# Altium schematic symbol library HV9150.SchLib: 23 symbols
Pins are listed as number, name and electrical type; pins without a type are passive.

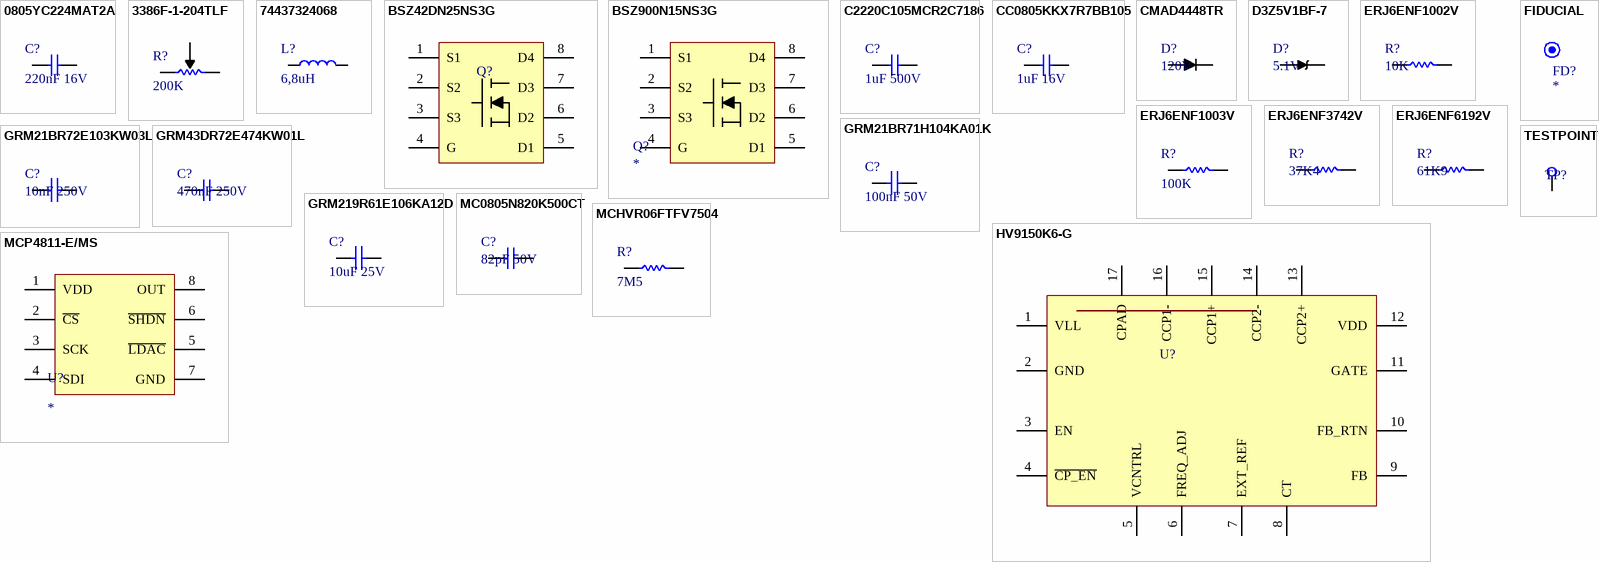
[diagram p0: symbols 0805YC224MAT2A to TESTPOINT]

## 0805YC224MAT2A
designator C?, comment 220nF 16V
CAPACITOR 220nF 0805 20%16V; Manufacturer: Kyocera AVX; Manufacturer Part Number: 0805YC224MAT2A; Tolerance: 20%; Dielectric: X7R; Dissipation Factor: 3.5%; Supplier 1: Farnell; Stock 1: 0; Pricing 1: 4000=0.0977, 8000=0.0958, 16000=0.0934 (EUR); Mount: Surface Mount; Case/Package: 0805; Number of Pins: 2; Case Code (Imperial): 0805; Case Code (Metric): 2012; Min Operating Temperature: -55°C; Max Operating Temperature: 125°C; Capacitance: 220nF; Voltage Rating: 16V; Packaging: Tape and Reel; Package Quantity: 4000; Voltage Rating (DC): 16V; Termination: SMD/SMT; Length: 2.01mm; Height: 0.94mm; Width: 1.25mm; Thickness: 0.037inch; Depth: 1.25mm; REACH SVHC: Unknown; Lead Free: Lead Free; ComponentLink1URL: http://www.mouser.com/ds/2/40/X7RDielectric-777024.pdf?src-supplier=Mouser; ComponentLink1Description: http://www.mouser.com/ds/2/40/X7RDielectric-777024.pdf?src-supplier=Mouser; ComponentLink2URL: http://www.avx.com/docs/Catalogs/cx7r.pdf?src-supplier=Avnet; ComponentLink2Description: http://www.avx.com/docs/Catalogs/cx7r.pdf?src-supplier=Avnet; ComponentLink3URL: http://datasheets.avx.com/X7RDielectric.pdf?src-supplier=Digi-Key; ComponentLink3Description: http://datasheets.avx.com/X7RDielectric.pdf?src-supplier=Digi-Key; Value: 220nF 16V
footprint CAP 0805/2012 (Chip Capacitor, 2-Leads, Body 2.00x1.20mm, IPC Medium Density)
pins: 1, 2

## 3386F-1-204TLF
designator R?, comment 200K
POT 200K 3386F 10% 500mW trimmer potentiometer; Manufacturer: Bourns; Manufacturer Part Number: 3386F-1-204TLF; Resistance: 200kR; Voltage Rating: 300V; Temperature Coefficient: 100ppm/°C; Number of Turns: 1; Supplier 1: Mouser; Stock 1: 198; Pricing 1: 1=2.48, 10=1.95, 50=1.88, 100=1.73, 1000=1.35, 10000=1.08 (USD); Mount: Through Hole; Weight: 0.03oz; Min Operating Temperature: -55°C; Max Operating Temperature: 125°C; Tolerance: 10%; Power Rating: 500mW; Packaging: Rail/Tube; Package Quantity: 100; Composition: Cermet; Termination: Pin; Max Power Dissipation: 500mW; Military Standard: Not; Length: 9.53mm; Height: 0.19inch; Depth: 9.53mm; Radiation Hardening: No; REACH SVHC: No SVHC; ComponentLink1URL: http://uk.rs-online.com/webdocs/069c/0900766b8069ccf9.pdf?src-supplier=RSComponents; ComponentLink1Description: http://uk.rs-online.com/webdocs/069c/0900766b8069ccf9.pdf?src-supplier=RSComponents; ComponentLink2URL: http://www.farnell.com/datasheets/1815119.pdf?src-supplier=Element14; ComponentLink2Description: http://www.farnell.com/datasheets/1815119.pdf?src-supplier=Element14; ComponentLink3URL: http://www.bourns.com/data/global/pdfs/3386.pdf?src-supplier=Avnet; ComponentLink3Description: http://www.bourns.com/data/global/pdfs/3386.pdf?src-supplier=Avnet; ComponentLink4URL: http://www.bourns.com/docs/Product-Datasheets/3386.pdf?src-supplier=Digi-Key; ComponentLink4Description: http://www.bourns.com/docs/Product-Datasheets/3386.pdf?src-supplier=Digi-Key; Value: 200K
footprint BOURNS 3386F
pins: 1, 2, 3

## 74437324068
designator L?, comment 6,8uH
INDUCTOR 6,8 uH 20% 1,75 A; Manufacturer: Wurth Electronics; Manufacturer Part Number: 74437324068; Core Material: Ferrite,Composite; Frequency: 29MHz; Current Rating: 1.75A; Saturation Current: 3.5A; Shielding: Shielded; Inductance: 6.8uH; DC Resistance (DCR): 172mR; Test Frequency: 100kHz; Supplier 1: Farnell; Stock 1: 0; Mount: Surface Mount; Case/Package: Nonstandard; Min Operating Temperature: -40°C; Max Operating Temperature: 125°C; Tolerance: 20%; Inductance Tolerance: 20%; Package Quantity: 3000; Packaging: Tape and Reel; Self Resonant Frequency: 29MHz; Composition: Wirewound; Max DC Current: 1.75A; Termination: SMD/SMT; RMS Current (Irms): 1.75A; Series Resistance: 172mR; Length: 4.45mm; Height: 1.8mm; Width: 4.06mm; Height - Seated (Max): 0.079inch; Depth: 4.06mm; REACH SVHC: Unknown; ComponentLink1URL: http://www.farnell.com/datasheets/1735828.pdf?src-supplier=Element14; ComponentLink1Description: http://www.farnell.com/datasheets/1735828.pdf?src-supplier=Element14; ComponentLink2URL: http://katalog.we-online.de/pbs/datasheet/74437324068.pdf?src-supplier=Digi-Key; ComponentLink2Description: http://katalog.we-online.de/pbs/datasheet/74437324068.pdf?src-supplier=Digi-Key; ComponentLink3URL: http://www.mouser.com/ds/2/445/74437324068-538785.pdf?src-supplier=Mouser; ComponentLink3Description: http://www.mouser.com/ds/2/445/74437324068-538785.pdf?src-supplier=Mouser; Value: 6,8uH
footprint WE-LHMI_4020 (SMT Power Inductor, 2-Leads, body 4.06x4.06mm)
pins: 1, 2

## BSZ42DN25NS3G
designator Q?  (value not drawn)
N-CH MOSFET 250V 5A 371mOhm; Manufacturer: Infineon; Manufacturer Part Number: BSZ42DN25NS3G; Turn-Off Delay Time: 8ns; Turn-On Delay Time: 3ns; Gate to Source Voltage (Vgs): 20V; Rise Time: 2ns; Input Capacitance: 530pF; Max Power Dissipation: 40W; Drain to Source Resistance: 425mR; Element Configuration: Single; Rds On Max: 400mR; Fall Time: 5ns; Power Dissipation: 33.8W; Supplier 1: Mouser; Stock 1: 0; Case/Package: TO-220-3; Number of Pins: 8; Min Operating Temperature: -55°C; Max Operating Temperature: 150°C; Continuous Drain Current (ID): 5A; Package Quantity: 1; Packaging: Tape and Reel; Drain to Source Breakdown Voltage: 250V; Length: 3.4mm; Height: 1.1mm; Width: 3.4mm; Halogen Free: Halogen Free; ComponentLink1URL: http://www.infineon.com/dgdl/BSZ42DN25NS3+Rev2.2.pdf?folderId=db3a304325305e6d012596c6ca7b290a&fileId=db3a30432ad629a6012b15e5a93b1a8b&src-supplier=Digi-Key; ComponentLink1Description: http://www.infineon.com/dgdl/BSZ42DN25NS3+Rev2.2.pdf?folderId=db3a304325305e6d012596c6ca7b290a&fileId=db3a30432ad629a6012b15e5a93b1a8b&src-supplier=Digi-Key; ComponentLink2URL: http://www.mouser.com/ds/2/196/BSZ42DN25NS3%20Rev2.3-91542.pdf?src-supplier=Mouser; ComponentLink2Description: http://www.mouser.com/ds/2/196/BSZ42DN25NS3%20Rev2.3-91542.pdf?src-supplier=Mouser
footprint TSDSON-8
pins: 1 S1, 2 S2, 3 S3, 4 G, 5 D1, 6 D2, 7 D3, 8 D4

## BSZ900N15NS3G
designator Q?
N-CH MOSFET 150V 13A 74mOhm; Manufacturer: Infineon; Manufacturer Part Number: BSZ900N15NS3G; Gate to Source Voltage (Vgs): 20V; Rise Time: 4ns; Rds On Max: 90mR; Input Capacitance: 510pF; Max Power Dissipation: 38W; Turn-Off Delay Time: 8ns; Fall Time: 3ns; Supplier 1: Farnell; Stock 1: 0; Case/Package: 168; Number of Pins: 8; Min Operating Temperature: -55°C; Max Operating Temperature: 150°C; Continuous Drain Current (ID): 13A; Drain to Source Voltage (Vdss): 150V; Packaging: Tape and Reel; Turn-On Delay Time: 4ns; Package Quantity: 5000; Halogen Free: Halogen Free; Lead Free: Lead Free; REACH SVHC: No SVHC; ComponentLink1URL: http://www.infineon.com/dgdl/BSZ900N15NS3+Rev2.1.pdf?folderId=db3a304326623792012669f6bee2224b&fileId=db3a304326623792012669f7decc224c&src-supplier=Digi-Key; ComponentLink1Description: http://www.infineon.com/dgdl/BSZ900N15NS3+Rev2.1.pdf?folderId=db3a304326623792012669f6bee2224b&fileId=db3a304326623792012669f7decc224c&src-supplier=Digi-Key
footprint TSDSON-8
pins: 1 S1, 2 S2, 3 S3, 4 G, 5 D1, 6 D2, 7 D3, 8 D4

## C2220C105MCR2C7186
designator C?, comment 1uF 500V
CAPACITOR 1uF 2220 20% 500V; Manufacturer: KEMET; Manufacturer Part Number: C2220C105MCR2C7186; Dielectric Material: Ceramic; Dielectric: X7R; Voltage Rating (DC): 1kV; Supplier 1: Farnell; Stock 1: 0; Mount: Surface Mount; Case/Package: 2220; Case Code (Imperial): 2220; Case Code (Metric): 5650; Min Operating Temperature: -55°C; Max Operating Temperature: 125°C; Tolerance: 20%; Capacitance: 1uF; Package Quantity: 1; Voltage Rating: 500V; Packaging: Tape and Reel; Termination: SMD/SMT; Length: 6mm; Height: 5mm; Width: 5mm; Thickness: 0.217inch; Depth: 5mm; ComponentLink1URL: https://search.kemet.com/component-edge/download/datasheet/C2220C105MCR2C7186.pdf?src-supplier=Digi-Key; ComponentLink1Description: https://search.kemet.com/component-edge/download/datasheet/C2220C105MCR2C7186.pdf?src-supplier=Digi-Key; ComponentLink2URL: https://api.kemet.com/component-edge/download/datasheet/C2220C105MCR2C7186.pdf?src-supplier=Digi-Key; ComponentLink2Description: https://api.kemet.com/component-edge/download/datasheet/C2220C105MCR2C7186.pdf?src-supplier=Digi-Key; Value: 1uF 500V
footprint CAP 2220/5650 (Chip Capacitor, 2-Leads, Body 5.70x5.00mm, IPC Medium Density)
pins: 1, 2

## CC0805KKX7R7BB105
designator C?, comment 1uF 16V
CAPACITOR 1uF 0805 10% 16V; Manufacturer: Yageo; Manufacturer Part Number: CC0805KKX7R7BB105; Dielectric: X7R; Supplier 1: Farnell; Stock 1: 0; Mount: Surface Mount; Case/Package: 0805; Case Code (Metric): 2012; Case Code (Imperial): 0805; Min Operating Temperature: -55°C; Max Operating Temperature: 125°C; Capacitance: 1uF; Tolerance: 10%; Packaging: Tape and Reel; Voltage Rating: 16V; Package Quantity: 1; Termination: SMD/SMT; Voltage Rating (DC): 16V; Length: 2mm; Depth: 1.25mm; Width: 0.049inch; Thickness: 0.049inch; Radiation Hardening: No; REACH SVHC: No SVHC; Lead Free: Lead Free; Halogen Free: Halogen Free; ComponentLink1URL: http://www.yageo.com/documents/recent/UPY-GPHC_X7R_6.3V-to-50V_18.pdf?src-supplier=Digi-Key; ComponentLink1Description: http://www.yageo.com/documents/recent/UPY-GPHC_X7R_6.3V-to-50V_18.pdf?src-supplier=Digi-Key; ComponentLink2URL: http://www.mouser.com/ds/2/447/Yageo_UPY-GP_NP0_16V-to-50V_9-358835.pdf?src-supplier=Mouser; ComponentLink2Description: http://www.mouser.com/ds/2/447/Yageo_UPY-GP_NP0_16V-to-50V_9-358835.pdf?src-supplier=Mouser; ComponentLink3URL: https://www.verical.com/server-webapp/html/getDatasheet?partID=251802&src-supplier=Verical; ComponentLink3Description: https://www.verical.com/server-webapp/html/getDatasheet?partID=251802&src-supplier=Verical; ComponentLink4URL: http://www.farnell.com/datasheets/1489800.pdf?src-supplier=Element14; ComponentLink4Description: http://www.farnell.com/datasheets/1489800.pdf?src-supplier=Element14; ComponentLink5URL: http://www.yageo.com/documents/recent/UPY-GPHC_X7R_6.3V-to-50V_8.pdf?src-supplier=Avnet; ComponentLink5Description: http://www.yageo.com/documents/recent/UPY-GPHC_X7R_6.3V-to-50V_8.pdf?src-supplier=Avnet; Value: 1uF 16V
footprint CAP 0805/2012 (Chip Capacitor, 2-Leads, Body 2.00x1.20mm, IPC Medium Density)
pins: 1, 2

## CMAD4448TR
designator D?, comment 120V
DIODE 120V 500mA SOD-923; Manufacturer: Central Semiconductor; Manufacturer Part Number: CMAD4448TR; Max Surge Current: 4A; Recovery Time: 4ns; Max Power Dissipation: 100mW; Average Rectified Current: 250mA; Element Configuration: Single; Supplier 1: Mouser; Stock 1: 5534; Mount: Surface Mount; Min Operating Temperature: -65°C; Max Operating Temperature: 150°C; Packaging: Tape and Reel; Package Quantity: 8000; Reverse Recovery Time: 4ns; Max Reverse Voltage (DC): 120V; ComponentLink1URL: http://www.mouser.com/ds/2/68/cmad4448-51972.pdf?src-supplier=Mouser; ComponentLink1Description: http://www.mouser.com/ds/2/68/cmad4448-51972.pdf?src-supplier=Mouser
footprint SOD923 (SOD, 2-Leads, Body 0.60x0.80mm, IPC Medium Density)
pins: 1 K, 2 A

## D3Z5V1BF-7
designator D?, comment 5.1V
DIODE ZENER 5.1V 400MW SOD323F; Manufacturer: Diodes; Manufacturer Part Number: D3Z5V1BF-7; Tolerance: 2%; Impedance: 60R; Voltage Tolerance: 2.36%; Max Reverse Leakage Current: 2uA; Element Configuration: Single; Forward Voltage: 900mV; Supplier 1: Mouser; Stock 1: 45350; Mount: Surface Mount; Number of Pins: 2; Min Operating Temperature: -65°C; Max Operating Temperature: 150°C; Package Quantity: 3000; Packaging: Tape and Reel; Max Power Dissipation: 400mW; Zener Voltage: 5.1V; Termination: SMD/SMT; Zener Current: 2uA; Peak Reverse Current: 2uA; Power Rating: 400mW; Length: 2.5mm; Height: 0.75mm; Width: 1.25mm; Radiation Hardening: No; REACH SVHC: No SVHC; ComponentLink1URL: https://www.diodes.com/assets/Datasheets/D3ZxVxBF.pdf?src-supplier=Digi-Key; ComponentLink1Description: https://www.diodes.com/assets/Datasheets/D3ZxVxBF.pdf?src-supplier=Digi-Key; ComponentLink2URL: http://www.mouser.com/ds/2/115/D3ZxVxBF-259596.pdf?src-supplier=Mouser; ComponentLink2Description: http://www.mouser.com/ds/2/115/D3ZxVxBF-259596.pdf?src-supplier=Mouser; ComponentLink3URL: http://components.arrow.com/part/dataview/0323_04212362?src-supplier=Arrow+Europe; ComponentLink3Description: http://components.arrow.com/part/dataview/0323_04212362?src-supplier=Arrow+Europe; ComponentLink4URL: http://www.diodes.com/datasheets/D3ZxVxBF.pdf?src-supplier=Avnet; ComponentLink4Description: http://www.diodes.com/datasheets/D3ZxVxBF.pdf?src-supplier=Avnet
footprint SOD323F (SODFL, 2-Leads, Body 1.25x2.50mm, IPC Medium Density)
pins: 1 A, 2 K

## ERJ6ENF1002V
designator R?, comment 10K
RESISTOR 10K 0805 1% 1/8mW; Manufacturer: Panasonic; Manufacturer Part Number: ERJ-6ENF1002V; Resistance: 10kR; Temperature Coefficient: 100ppm/°C; Power Rating: 125mW; Voltage Rating (DC): 150V; Supplier 1: Farnell; Stock 1: 0; Mount: Surface Mount; Case/Package: 0805; Number of Pins: 2; Contact Plating: Tin; Case Code (Metric): 2012; Case Code (Imperial): 0805; Min Operating Temperature: -55°C; Max Operating Temperature: 155°C; Tolerance: 1%; Packaging: Tape and Reel; Composition: Thick Film; Voltage Rating: 150V; Package Quantity: 5000; Number of Terminations: 2; Termination: SMD/SMT; Military Standard: Not; Max Power Dissipation: 125mW; Working Voltage: 150V; Features: Automotive AEC-Q200; Length: 2mm; Height: 0.6mm; Width: 0.049inch; Depth: 1.25mm; Radiation Hardening: No; REACH SVHC: No SVHC; Lead Free: Lead Free; ComponentLink1URL: http://industrial.panasonic.com/www-data/pdf/AOA0000/AOA0000CE2.pdf?src-supplier=Avnet+Asia; ComponentLink1Description: http://industrial.panasonic.com/www-data/pdf/AOA0000/AOA0000CE2.pdf?src-supplier=Avnet+Asia; ComponentLink2URL: http://www.jameco.com/Jameco/Products/ProdDS/1988971.pdf?src-supplier=Jameco; ComponentLink2Description: http://www.jameco.com/Jameco/Products/ProdDS/1988971.pdf?src-supplier=Jameco; ComponentLink3URL: http://www.alliedelec.com/m/d/623f45ff1957d936ff56d46fd1c28cac.pdf?src-supplier=Allied+Electronics; ComponentLink3Description: http://www.alliedelec.com/m/d/623f45ff1957d936ff56d46fd1c28cac.pdf?src-supplier=Allied+Electronics; ComponentLink4URL: http://www.farnell.com/datasheets/426256.pdf?src-supplier=Element14; ComponentLink4Description: http://www.farnell.com/datasheets/426256.pdf?src-supplier=Element14; ComponentLink5URL: http://www.farnell.com/datasheets/1911175.pdf?src-supplier=Element14; ComponentLink5Description: http://www.farnell.com/datasheets/1911175.pdf?src-supplier=Element14; ComponentLink6URL: http://industrial.panasonic.com/www-data/pdf/AOA0000/AOA0000CE2.pdf?src-supplier=Avnet+Europe; ComponentLink6Description: http://industrial.panasonic.com/www-data/pdf/AOA0000/AOA0000CE2.pdf?src-supplier=Avnet+Europe; ComponentLink7URL: http://www.mouser.com/ds/2/315/AOA0000CE2-37512.pdf?src-supplier=Mouser; ComponentLink7Description: http://www.mouser.com/ds/2/315/AOA0000CE2-37512.pdf?src-supplier=Mouser; Value: 10K
footprint RES 0805/2012 (Chip Resistor, 2-Leads, Body 2.00x1.25mm, IPC Medium Density)
pins: 1, 2

## ERJ6ENF1003V
designator R?, comment 100K
RESISTOR 100K 0805 1% 1/8W; Manufacturer: Panasonic; Manufacturer Part Number: ERJ-6ENF1003V; Resistance: 100kR; Temperature Coefficient: 100ppm/°C; Power Rating: 125mW; Voltage Rating: 150V; Supplier 1: Farnell; Stock 1: 0; Mount: Surface Mount; Case/Package: 0805; Number of Pins: 2; Contact Plating: Tin; Case Code (Metric): 2012; Case Code (Imperial): 0805; Min Operating Temperature: -55°C; Max Operating Temperature: 155°C; Tolerance: 1%; Composition: Thick Film; Packaging: Tape and Reel; Package Quantity: 1; Number of Terminations: 2; Military Standard: Not; Termination: SMD/SMT; Max Power Dissipation: 125mW; Voltage Rating (DC): 150V; Features: Automotive AEC-Q200; Length: 2mm; Height: 0.6mm; Width: 0.049inch; Depth: 1.25mm; Radiation Hardening: No; REACH SVHC: No SVHC; Lead Free: Lead Free; ComponentLink1URL: http://www.farnell.com/datasheets/426256.pdf?src-supplier=Element14; ComponentLink1Description: http://www.farnell.com/datasheets/426256.pdf?src-supplier=Element14; ComponentLink2URL: http://www.farnell.com/datasheets/1678782.pdf?src-supplier=Element14; ComponentLink2Description: http://www.farnell.com/datasheets/1678782.pdf?src-supplier=Element14; ComponentLink3URL: http://www.jameco.com/Jameco/Products/ProdDS/1988989.pdf?src-supplier=Jameco; ComponentLink3Description: http://www.jameco.com/Jameco/Products/ProdDS/1988989.pdf?src-supplier=Jameco; ComponentLink4URL: http://industrial.panasonic.com/www-data/pdf/AOA0000/AOA0000CE2.pdf?src-supplier=Future+Electronics; ComponentLink4Description: http://industrial.panasonic.com/www-data/pdf/AOA0000/AOA0000CE2.pdf?src-supplier=Future+Electronics; ComponentLink5URL: http://industrial.panasonic.com/www-data/pdf/AOA0000/AOA0000CE2.pdf?src-supplier=Avnet+Europe; ComponentLink5Description: http://industrial.panasonic.com/www-data/pdf/AOA0000/AOA0000CE2.pdf?src-supplier=Avnet+Europe; ComponentLink6URL: http://www.mouser.com/ds/2/315/AOA0000C283-1093288.pdf?src-supplier=Mouser; ComponentLink6Description: http://www.mouser.com/ds/2/315/AOA0000C283-1093288.pdf?src-supplier=Mouser; ComponentLink7URL: https://www.alliedelec.com/m/d/623f45ff1957d936ff56d46fd1c28cac.pdf?src-supplier=Allied+Electronics; ComponentLink7Description: https://www.alliedelec.com/m/d/623f45ff1957d936ff56d46fd1c28cac.pdf?src-supplier=Allied+Electronics; ComponentLink8URL: http://industrial.panasonic.com/www-data/pdf/AOA0000/AOA0000CE2.pdf?src-supplier=Avnet; ComponentLink8Description: http://industrial.panasonic.com/www-data/pdf/AOA0000/AOA0000CE2.pdf?src-supplier=Avnet; Value: 100K
footprint RES 0805/2012 (Chip Resistor, 2-Leads, Body 2.00x1.25mm, IPC Medium Density)
pins: 1, 2

## ERJ6ENF3742V
designator R?, comment 37K4
RESISTOR 37K4 0805 1% 1/8mW; Manufacturer: Panasonic; Manufacturer Part Number: ERJ-6ENF3742V; Power Rating: 125mW; Voltage Rating: 150V; Resistance: 37.4kR; Temperature Coefficient: 100ppm/°C; Supplier 1: Farnell; Stock 1: 0; Mount: Surface Mount; Case/Package: 0805; Case Code (Imperial): 0805; Case Code (Metric): 2012; Contact Plating: Tin; Min Operating Temperature: -55°C; Max Operating Temperature: 155°C; Tolerance: 1%; Packaging: Tape and Reel; Package Quantity: 1; Termination: SMD/SMT; Composition: Thick Film; Number of Terminations: 2; Military Standard: Not; Max Power Dissipation: 125mW; Voltage Rating (DC): 150V; Features: Automotive AEC-Q200; Length: 2mm; Height: 0.6mm; Width: 1.2mm; Depth: 1.25mm; Height - Seated (Max): 0.028inch; REACH SVHC: Unknown; Lead Free: Lead Free; ComponentLink1URL: http://www.farnell.com/datasheets/1678782.pdf?src-supplier=Farnell; ComponentLink1Description: http://www.farnell.com/datasheets/1678782.pdf?src-supplier=Farnell; ComponentLink2URL: http://www.industrial.panasonic.com/www-data/pdf/AOA0000/AOA0000CE2.pdf?src-supplier=Element14; ComponentLink2Description: http://www.industrial.panasonic.com/www-data/pdf/AOA0000/AOA0000CE2.pdf?src-supplier=Element14; ComponentLink3URL: http://www.farnell.com/datasheets/1678782.pdf?src-supplier=Element14; ComponentLink3Description: http://www.farnell.com/datasheets/1678782.pdf?src-supplier=Element14; ComponentLink4URL: http://industrial.panasonic.com/www-data/pdf/AOA0000/AOA0000CE2.pdf?src-supplier=Avnet; ComponentLink4Description: http://industrial.panasonic.com/www-data/pdf/AOA0000/AOA0000CE2.pdf?src-supplier=Avnet; Value: 37K4
footprint RES 0805/2012 (Chip Resistor, 2-Leads, Body 2.00x1.25mm, IPC Medium Density)
pins: 1, 2

## ERJ6ENF6192V
designator R?, comment 61K9
RESISTOR 61K9 0805 1% 1/8mW; Manufacturer: Panasonic; Manufacturer Part Number: ERJ-6ENF6192V; Resistance: 61.9kR; Temperature Coefficient: 100ppm/°C; Voltage Rating: 150V; Power Rating: 125mW; Supplier 1: Farnell; Stock 1: 0; Mount: Surface Mount; Case/Package: 0805; Weight: 0.000194oz; Contact Plating: Tin; Case Code (Metric): 2012; Case Code (Imperial): 0805; Min Operating Temperature: -55°C; Max Operating Temperature: 155°C; Tolerance: 1%; Composition: Thick Film; Packaging: Tape and Reel; Package Quantity: 5000; Number of Terminations: 2; Termination: SMD/SMT; Military Standard: Not; Max Power Dissipation: 125mW; Voltage Rating (DC): 150V; Features: Automotive AEC-Q200; Length: 2mm; Height: 0.6mm; Width: 0.049inch; Depth: 1.25mm; Height - Seated (Max): 0.028inch; Radiation Hardening: No; REACH SVHC: No SVHC; Lead Free: Lead Free; ComponentLink1URL: http://www.farnell.com/datasheets/1694929.pdf?src-supplier=Element14; ComponentLink1Description: http://www.farnell.com/datasheets/1694929.pdf?src-supplier=Element14; ComponentLink2URL: http://www.mouser.com/ds/2/315/AOA0000C304-1149620.pdf?src-supplier=Mouser; ComponentLink2Description: http://www.mouser.com/ds/2/315/AOA0000C304-1149620.pdf?src-supplier=Mouser; ComponentLink3URL: https://www.alliedelec.com/m/d/623f45ff1957d936ff56d46fd1c28cac.pdf?src-supplier=Allied+Electronics; ComponentLink3Description: https://www.alliedelec.com/m/d/623f45ff1957d936ff56d46fd1c28cac.pdf?src-supplier=Allied+Electronics; ComponentLink4URL: http://www.farnell.com/datasheets/1678782.pdf?src-supplier=Element14; ComponentLink4Description: http://www.farnell.com/datasheets/1678782.pdf?src-supplier=Element14; Value: 61K9
footprint RES 0805/2012 (Chip Resistor, 2-Leads, Body 2.00x1.25mm, IPC Medium Density)
pins: 1, 2

## FIDUCIAL
designator FD?
FIDUCIAL
footprint Fiducial

## GRM21BR71H104KA01K
designator C?, comment 100nF 50V
CAPACITOR 0805 100nF 50V X7R; Manufacturer: MURATA; Manufacturer Part Number: GRM21BR71H104KA01K; Ceramic Capacitor Case: 0805 [2012 Metric]; Capacitance: 0.1; Voltage Rating: 50; Capacitance Tolerance: ± 10%; Dielectric Characteristic: X7; Product Range: GRM Series; SVHC: No SVHC (20-Jun-2016; Supplier 1: Farnell; RoHS: YES; Stock 1: 11967; Pricing 1: 10=0.0583, 100=0.0363, 500=0.0261, 2500=0.0207, 5000=0.0183, 10000=0.0152, 50000=0.013, 100000=0.0118 (GBP); Packaging: Cut Tape; Operating Temperature Min: -55; Operating Temperature Max: 125; Automotive Qualification Standard: -; MSL: MSL 1 - Unlimited; ComponentLink1URL: http://www.farnell.com/datasheets/2189144.pdf; ComponentLink1Description: http://www.farnell.com/datasheets/2189144.pdf; Value: 100nF 50V
footprint CAP 0805/2012 (Chip Capacitor, 2-Leads, Body 2.00x1.20mm, IPC Medium Density)
pins: 1, 2

## GRM21BR72E103KW03L
designator C?, comment 10nF 250V
CAPACITOR 0805 10nF 250V X7R; Manufacturer: Murata; Manufacturer Part Number: GRM21BR72E103KW03L; Material: Ceramic; Tolerance: 10%; Dissipation Factor: 0.025%; Supplier 1: Farnell; Stock 1: 0; Pricing 1: 3000=0.027 (EUR); Mount: Surface Mount; Case/Package: 0805; Number of Pins: 2; Case Code (Metric): 2012; Case Code (Imperial): 0805; Min Operating Temperature: -55°C; Max Operating Temperature: 125°C; Capacitance: 10nF; Dielectric: X7R; Package Quantity: 1; Voltage Rating: 250V; Packaging: Tape and Reel; Termination: SMD/SMT; Voltage: 250V; Voltage Rating (DC): 250V; Length: 2mm; Height: 1.25mm; Width: 0.049inch; Thickness: 0.053inch; Depth: 1.25mm; Radiation Hardening: No; REACH SVHC: No SVHC; Lead Free: Lead Free; ComponentLink1URL: http://search.murata.co.jp/Ceramy/image/img/A01X/G101/ENG/GRM21BR72E103KW03-01.pdf?src-supplier=Digi-Key; ComponentLink1Description: http://search.murata.co.jp/Ceramy/image/img/A01X/G101/ENG/GRM21BR72E103KW03-01.pdf?src-supplier=Digi-Key; ComponentLink2URL: http://psearch.en.murata.com/capacitor/product/GRM21BR72E103KW03%23.pdf?src-supplier=Future+Electronics; ComponentLink2Description: http://psearch.en.murata.com/capacitor/product/GRM21BR72E103KW03%23.pdf?src-supplier=Future+Electronics; ComponentLink3URL: http://www.jameco.com/Jameco/Products/ProdDS/1859052.pdf?src-supplier=Jameco; ComponentLink3Description: http://www.jameco.com/Jameco/Products/ProdDS/1859052.pdf?src-supplier=Jameco; ComponentLink4URL: http://www.farnell.com/datasheets/608985.pdf?src-supplier=Element14; ComponentLink4Description: http://www.farnell.com/datasheets/608985.pdf?src-supplier=Element14; ComponentLink5URL: http://search.murata.co.jp/Ceramy/image/img/A01X/G101/ENG/GRM21BR72E103KW03-01.pdf?src-supplier=Mouser; ComponentLink5Description: http://search.murata.co.jp/Ceramy/image/img/A01X/G101/ENG/GRM21BR72E103KW03-01.pdf?src-supplier=Mouser; ComponentLink6URL: http://components.arrow.com/part/dataview/5434930S6560212N2606?src-supplier=Arrow; ComponentLink6Description: http://components.arrow.com/part/dataview/5434930S6560212N2606?src-supplier=Arrow; Value: 10nF 250V
footprint CAP 0805/2012 (Chip Capacitor, 2-Leads, Body 2.00x1.20mm, IPC Medium Density)
pins: 1, 2

## GRM43DR72E474KW01L
designator C?, comment 470nF 250V
CAPACITOR 470nF 1812 10% 250V; Manufacturer: Murata; Manufacturer Part Number: GRM43DR72E474KW01L; Dielectric: X7R; Supplier 1: Farnell; Stock 1: 0; Pricing 1: 1000=0.23 (EUR); Mount: Surface Mount; Case/Package: 1812; Case Code (Imperial): 1812; Case Code (Metric): 4532; Min Operating Temperature: -55°C; Max Operating Temperature: 125°C; Capacitance: 470nF; Tolerance: 10%; Packaging: Tape and Reel; Voltage Rating: 250V; Voltage Rating (DC): 250V; Package Quantity: 1; Termination: SMD/SMT; Voltage: 250V; Length: 4.5mm; Height: 2mm; Depth: 3.2mm; Width: 3.2mm; Thickness: 0.087inch; REACH SVHC: No SVHC; Lead Free: Lead Free; ComponentLink1URL: http://www.jameco.com/Jameco/Products/ProdDS/1859870.pdf?src-supplier=Jameco; ComponentLink1Description: http://www.jameco.com/Jameco/Products/ProdDS/1859870.pdf?src-supplier=Jameco; ComponentLink2URL: http://components.arrow.com/part/dataview/41887622S6909517N2606?src-supplier=Arrow; ComponentLink2Description: http://components.arrow.com/part/dataview/41887622S6909517N2606?src-supplier=Arrow; ComponentLink3URL: http://search.murata.co.jp/Ceramy/image/img/A01X/G101/ENG/GRM43DR72E474KW01-01.pdf?src-supplier=Digi-Key; ComponentLink3Description: http://search.murata.co.jp/Ceramy/image/img/A01X/G101/ENG/GRM43DR72E474KW01-01.pdf?src-supplier=Digi-Key; ComponentLink4URL: http://search.murata.co.jp/Ceramy/image/img/A01X/partnumbering_e_01.pdf?src-supplier=Digi-Key; ComponentLink4Description: http://search.murata.co.jp/Ceramy/image/img/A01X/partnumbering_e_01.pdf?src-supplier=Digi-Key; ComponentLink5URL: http://www.murata.com/products/catalog/pdf/c02e.pdf?src-supplier=Future+Electronics; ComponentLink5Description: http://www.murata.com/products/catalog/pdf/c02e.pdf?src-supplier=Future+Electronics; Value: 470nF 250V
footprint CAP 1812/4532 (Chip Capacitor, 2-Leads, Body 4.50x3.20mm, IPC Medium Density)
pins: 1, 2

## GRM219R61E106KA12D
designator C?, comment 10uF 25V
CAPACITOR 0805 10uF 25V X5R; Manufacturer: MURATA; Manufacturer Part Number: GRM219R61E106KA12D; Ceramic Capacitor Case: 0805 [2012 Metric]; Capacitance: 10; Voltage Rating: 25; Capacitance Tolerance: ± 10%; Dielectric Characteristic: X5; Product Range: GRM Series; SVHC: No SVHC (17-Dec-2015)<!--FANDB--><div class="features-and-benefits-container"><div class="features-and-benefits-description"><span class="features-benefits-value">The Murata GRM series capacitors are Multilayer Ceramic Chip Capacitors (MLCC) used for general purpose applications. These MLCC capacitors are classified into temperature compensating and high dielectric constant types depending on the change in electrostatic capacitance due to change in temperature. The temperature compensating capacitors feature a small rate of change in electrostatic capacitance as the temperature changes and are used for applications such as filters and high frequency circuit matching. The high dielectric constant capacitors use materials with a high dielectric constant and feature a large electrostatic capacitance. Typical applications are power supply decoupling and smoothing circuits.</span></div><div class="features-and-benefits-list"><ul class="features-and-benefits-list-list"><li class="features-and-benefits-list-item">Large capacity and small size in a multilayer structure</li><li class="features-and-benefits-list-item">Capacitance value ranging from 0.1pF to 220?F</li><li class="features-and-benefits-list-item">Tin plated external electrodes, excellent solderability</li><li class="features-and-benefits-list-item">Provides good high frequency characteristics</li><li class="features-and-benefits-list-item">Excellent pulse response</li><li class="features-and-benefits-list-item">High reliability</li><li class="features-and-benefits-list-item">Capacitor size varies from 0.4×0.2mm to 5.7×5.0mm</li><li class="features-and-benefits-list-item">Rated voltage of 2.5VDC to 3.15; Supplier 1: Farnell; RoHS: YES; Stock 1: 107166; Pricing 1: 1=0.168, 2=0.0972, 3=0.0876, 5=0.0796, 10=0.0763, 20=0.073, 50=0.0548, 100=0.0487 (GBP); Packaging: Cut Tape; Operating Temperature Min: -55; Operating Temperature Max: 85; Automotive Qualification Standard: -; MSL: -; ComponentLink1URL: http://www.farnell.com/datasheets/2048148.pdf; ComponentLink1Description: http://www.farnell.com/datasheets/2048148.pdf; Value: 10uF 25V
footprint CAP 0805/2012 (Chip Capacitor, 2-Leads, Body 2.00x1.20mm, IPC Medium Density)
pins: 1, 2

## HV9150K6-G
designator U?  (value not drawn)
HV9150K6-G; Manufacturer: Microchip Supertex; Supplier 1: Mouser; Manufacturer Part Number: HV9150K6-G; Stock 1: 284; Pricing 1: 1=1.49, 10=1.47, 50=1.24, 100=1.13, 1000=1.13, 10000=1.13 (USD); Case/Package: QFN; Number of Pins: 16; Packaging: Tape and Reel
footprint QFN16 3X3
pins: 1 VLL, 2 GND, 3 EN, 4 ~{CP_EN}, 5 VCNTRL, 6 FREQ_ADJ, 7 EXT_REF, 8 CT, 9 FB, 10 FB_RTN, 11 GATE, 12 VDD, 13 CCP2+, 14 CCP2-, 15 CCP1+, 16 CCP1-, 17 CPAD

## MC0805N820K500CT
designator C?, comment 82pF 50V
CAPACITOR 82pF 0805 5% 50V; Manufacturer: Multicomp; Manufacturer Part Number: MC0805N820K500CT; Tolerance: 10%; Dielectric: C0G; Supplier 1: Farnell; Stock 1: 3804; Pricing 1: 1=0.0563, 10=0.0483, 50=0.0402, 100=0.0313, 250=0.0245, 500=0.0201 (EUR); Case/Package: 0805; Number of Pins: 2; Case Code (Metric): 2012; Case Code (Imperial): 0805; Min Operating Temperature: -55°C; Max Operating Temperature: 125°C; Capacitance: 82pF; Voltage Rating: 50V; Packaging: Cut Tape; Voltage Rating (DC): 50V; REACH SVHC: Unknown; ComponentLink1URL: http://www.newark.com/pdfs/datasheets/spc/Ta-1100.pdf?src-supplier=Element14; ComponentLink1Description: http://www.newark.com/pdfs/datasheets/spc/Ta-1100.pdf?src-supplier=Element14; Value: 82pF 50V
footprint CAP 0805/2012 (Chip Capacitor, 2-Leads, Body 2.00x1.20mm, IPC Medium Density)
pins: 1, 2

## MCHVR06FTFV7504
designator R?, comment 7M5
RESISTOR 7M5, 1206, 1%, 0.25W,  500V; Manufacturer: Multicomp; Manufacturer Part Number: MCHVR06FTFV7504; Supplier 1: Farnell; Stock 1: 4730; Pricing 1: 10=0.16, 100=0.107, 500=0.0719, 1000=0.0618, 2500=0.0542, 5000=0.0443, 25000=0.0403, 50000=0.0345 (EUR); Value: 7M5
footprint RES 1206/3216
pins: 1, 2

## MCP4811-E/MS
designator U?
MCP4811-E/MS; Manufacturer: Microchip; Resolution: 10b; Integral Nonlinearity (INL): 3.5LSB; Output Type: Voltage; Operating Supply Voltage: 5V; Number of Channels: 1; Interface: SPI,Serial; Min Supply Voltage: 2.7V; Max Supply Voltage: 5.5V; Nominal Supply Current: 330uA; Settling Time: 4.5us; Number of Bits: 10; Polarity: Bipolar; Reference Voltage: 2.048V; Input Offset Voltage (Vos): 820uV; Supplier 1: Mouser; Manufacturer Part Number: MCP4811-E/MS; Stock 1: 905; Pricing 1: 1=1.66, 10=1.64, 50=1.39, 100=1.25, 1000=1.25, 10000=1.25 (USD); Mount: Surface Mount; Case/Package: MSOP; Number of Pins: 8; Min Operating Temperature: -40°C; Max Operating Temperature: 125°C; Packaging: Rail/Tube; Number of DAC Channels: 1; Package Quantity: 100; Number of Converters: 1; Length: 3mm; Height: 0.95mm; Width: 3mm; Radiation Hardening: No; REACH SVHC: No SVHC; Lead Free: Lead Free; ComponentLink1URL: https://www.verical.com/server-webapp/html/getDatasheet?partID=723094&src-supplier=Verical; ComponentLink1Description: https://www.verical.com/server-webapp/html/getDatasheet?partID=723094&src-supplier=Verical; ComponentLink2URL: http://ww1.microchip.com/downloads/en/DeviceDoc/22244B.pdf?src-supplier=Avnet; ComponentLink2Description: http://ww1.microchip.com/downloads/en/DeviceDoc/22244B.pdf?src-supplier=Avnet; ComponentLink3URL: http://www.microchip.com/mymicrochip/filehandler.aspx?ddocname=en547908&src-supplier=Digi-Key; ComponentLink3Description: http://www.microchip.com/mymicrochip/filehandler.aspx?ddocname=en547908&src-supplier=Digi-Key; ComponentLink4URL: http://ww1.microchip.com/downloads/en/DeviceDoc/22244B.pdf?src-supplier=Avnet+Europe; ComponentLink4Description: http://ww1.microchip.com/downloads/en/DeviceDoc/22244B.pdf?src-supplier=Avnet+Europe; ComponentLink5URL: http://www.farnell.com/datasheets/630375.pdf?src-supplier=Element14; ComponentLink5Description: http://www.farnell.com/datasheets/630375.pdf?src-supplier=Element14; ComponentLink6URL: https://www.distrelec.biz/Web/Downloads/he/et/MCP4801_11_eng_datasheet.pdf?mime=application%2Fpdf&src-supplier=Distrelec; ComponentLink6Description: https://www.distrelec.biz/Web/Downloads/he/et/MCP4801_11_eng_datasheet.pdf?mime=application%2Fpdf&src-supplier=Distrelec; ComponentLink7URL: http://www.mouser.com/ds/2/268/22244B-54643.pdf?src-supplier=Mouser; ComponentLink7Description: http://www.mouser.com/ds/2/268/22244B-54643.pdf?src-supplier=Mouser; ComponentLink8URL: http://www.produktinfo.conrad.com/datenblaetter/1000000-1099999/001083269-da-01-en-DAC_10B_SPI_VREF_MCP4811_E_MS_MSOP_8_MCP.pdf?src-supplier=Conrad; ComponentLink8Description: http://www.produktinfo.conrad.com/datenblaetter/1000000-1099999/001083269-da-01-en-DAC_10B_SPI_VREF_MCP4811_E_MS_MSOP_8_MCP.pdf?src-supplier=Conrad
footprint MSOP-8
pins: 1 VDD, 2 ~{CS}, 3 SCK, 4 SDI, 5 ~{LDAC}, 6 ~{SHDN}, 7 GND, 8 OUT

## TESTPOINT
designator TP?  (value not drawn)
TESTPOINT
footprint TP_SMD_Ø1.0mm
pins: 1 TP